# Altium footprint library HRS FPC-FFC FH12 Series.PcbLib: 48 footprints (part 2 of 3)
Each footprint in its own frame and in the unit in brackets; x right, y up, seen from the top. Pads: shape width x height; smd on the part's side, far side on the other; paste and mask are expansions set on the pad; w line width, h text height; cw(c..) or ccw(c..) is an arc to the next point about the centre after c.
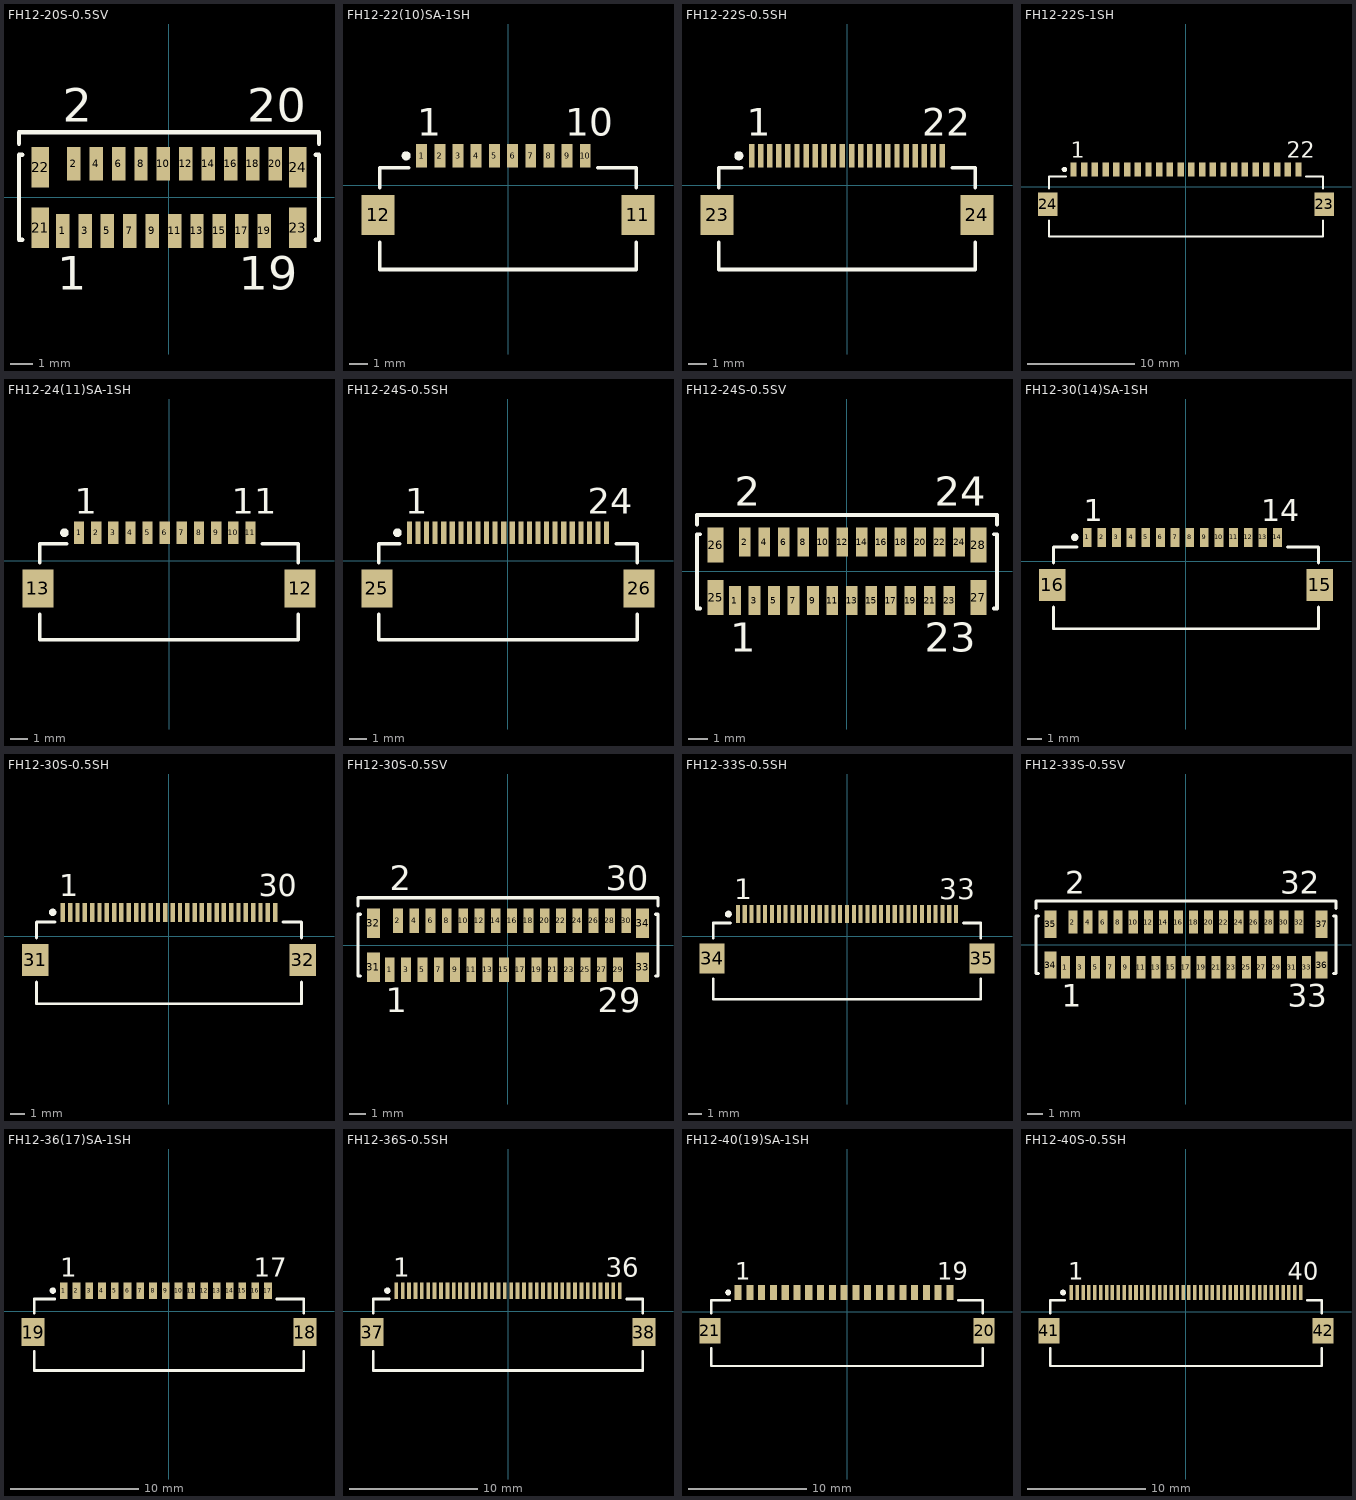
[diagram p1: the footprints below, top view; thin cyan lines are the x and y axes]

## FH12-20S-0.5SV [mm] "Connector; FH12 Series; 20 Position; 0.5mm Spaced Vertical Mounting"
height 4.85
pads (24):
  rect 0.6x1.5 smd: 1(-4.75,-1.5) 2(-4.25,1.5) 3(-3.75,-1.5) 4(-3.25,1.5) 5(-2.75,-1.5) 6(-2.25,1.5) 7(-1.75,-1.5) 8(-1.25,1.5) 9(-0.75,-1.5) 10(-0.25,1.5) 11(0.25,-1.5) 12(0.75,1.5) 13(1.25,-1.5) 14(1.75,1.5) 15(2.25,-1.5) 16(2.75,1.5) 17(3.25,-1.5) 18(3.75,1.5) 19(4.25,-1.5) 20(4.75,1.5)
  rect 0.8x1.8 smd: 21(-5.75,-1.35) 22(-5.75,1.35) 23(5.75,-1.35) 24(5.75,1.35)
Top Overlay:
  lines w0.2: -6.7,2.4 -6.7,2.9 6.7,2.9 6.7,2.4 ; -6.55,-1.9 -6.7,-1.9 -6.7,1.9 -6.55,1.9 ; 6.55,-1.9 6.7,-1.9 6.7,1.9 6.55,1.9
  text "19" at 3.125,-4.125 h1.5
  text "20" at 3.5,3.375 h1.5
  text "2" at -4.75,3.375 h1.5
  text "1" at -5,-4.125 h1.5

## FH12-22(10)SA-1SH [mm] "Connector; FH12 Series; 10 Position; 1.0mm Spaced Bottom Eccentric Contact"
height 2
pads (12):
  rect 0.6x1.3 smd: 1(-4.75,1.625) 2(-3.75,1.625) 3(-2.75,1.625) 4(-1.75,1.625) 5(-0.75,1.625) 6(0.25,1.625) 7(1.25,1.625) 8(2.25,1.625) 9(3.25,1.625) 10(4.25,1.625)
  rect 1.8x2.2 smd: 11(7.15,-1.625) 12(-7.15,-1.625)
Top Overlay:
  circle w0.25: c-5.6,1.625 r0.125
  lines w0.2: -7.05,-3.125 -7.05,-4.625 7.05,-4.625 7.05,-3.125 ; -7.05,-0.125 -7.05,0.975 -5.45,0.975 ; 4.95,0.975 7.05,0.975 7.05,-0.125
  text "10" at 3.15,2.725 h1.5
  text "1" at -5,2.725 h1.5

## FH12-22S-0.5SH [mm] "Connector; FH12 Series; 22 Position; 0.5mm Spaced Bottom Contact"
height 2
pads (24):
  rect 0.3x1.3 smd: 1(-5.25,1.625) 2(-4.75,1.625) 3(-4.25,1.625) 4(-3.75,1.625) 5(-3.25,1.625) 6(-2.75,1.625) 7(-2.25,1.625) 8(-1.75,1.625) 9(-1.25,1.625) 10(-0.75,1.625) 11(-0.25,1.625) 12(0.25,1.625) 13(0.75,1.625) 14(1.25,1.625) 15(1.75,1.625) 16(2.25,1.625) 17(2.75,1.625) 18(3.25,1.625) 19(3.75,1.625) 20(4.25,1.625) 21(4.75,1.625) 22(5.25,1.625)
  rect 1.8x2.2 smd: 23(-7.15,-1.625) 24(7.15,-1.625)
Top Overlay:
  circle w0.25: c-5.95,1.625 r0.125
  lines w0.2: -7.05,-3.125 -7.05,-4.625 7.05,-4.625 7.05,-3.125 ; -7.05,-0.125 -7.05,0.975 -5.8,0.975 ; 5.8,0.975 7.05,0.975 7.05,-0.125
  text "1" at -5.5,2.725 h1.5
  text "22" at 4.15,2.725 h1.5

## FH12-22S-1SH [mm] "Connector; FH12 Series; 22 Position; 1.0mm Spaced Bottom Standard Contact"
height 2
pads (24):
  rect 0.6x1.3 smd: 1(-10.5,1.625) 2(-9.5,1.625) 3(-8.5,1.625) 4(-7.5,1.625) 5(-6.5,1.625) 6(-5.5,1.625) 7(-4.5,1.625) 8(-3.5,1.625) 9(-2.5,1.625) 10(-1.5,1.625) 11(-0.5,1.625) 12(0.5,1.625) 13(1.5,1.625) 14(2.5,1.625) 15(3.5,1.625) 16(4.5,1.625) 17(5.5,1.625) 18(6.5,1.625) 19(7.5,1.625) 20(8.5,1.625) 21(9.5,1.625) 22(10.5,1.625)
  rect 1.8x2.2 smd: 23(12.9,-1.625) 24(-12.9,-1.625)
Top Overlay:
  circle w0.25: c-11.35,1.625 r0.125
  lines w0.2: -12.8,-3.125 -12.8,-4.625 12.8,-4.625 12.8,-3.125 ; -12.8,-0.125 -12.8,0.975 -11.2,0.975 ; 11.2,0.975 12.8,0.975 12.8,-0.125
  text "1" at -10.75,2.725 h1.5
  text "22" at 9.4,2.725 h1.5

## FH12-24(11)SA-1SH [mm] "Connector; FH12 Series; 11 Position; 1.0mm Spaced Bottom Eccentric Contact"
height 2
pads (13):
  rect 0.6x1.3 smd: 1(-5.25,1.625) 2(-4.25,1.625) 3(-3.25,1.625) 4(-2.25,1.625) 5(-1.25,1.625) 6(-0.25,1.625) 7(0.75,1.625) 8(1.75,1.625) 9(2.75,1.625) 10(3.75,1.625) 11(4.75,1.625)
  rect 1.8x2.2 smd: 12(7.65,-1.625) 13(-7.65,-1.625)
Top Overlay:
  circle w0.25: c-6.1,1.625 r0.125
  lines w0.2: -7.55,-3.125 -7.55,-4.625 7.55,-4.625 7.55,-3.125 ; -7.55,-0.125 -7.55,0.975 -5.95,0.975 ; 5.45,0.975 7.55,0.975 7.55,-0.125
  text "11" at 3.65,2.725 h1.5
  text "1" at -5.5,2.725 h1.5

## FH12-24S-0.5SH [mm] "Connector; FH12 Series; 24 Position; 0.5mm Spaced Bottom Contact"
height 2
pads (26):
  rect 0.3x1.3 smd: 1(-5.75,1.625) 2(-5.25,1.625) 3(-4.75,1.625) 4(-4.25,1.625) 5(-3.75,1.625) 6(-3.25,1.625) 7(-2.75,1.625) 8(-2.25,1.625) 9(-1.75,1.625) 10(-1.25,1.625) 11(-0.75,1.625) 12(-0.25,1.625) 13(0.25,1.625) 14(0.75,1.625) 15(1.25,1.625) 16(1.75,1.625) 17(2.25,1.625) 18(2.75,1.625) 19(3.25,1.625) 20(3.75,1.625) 21(4.25,1.625) 22(4.75,1.625) 23(5.25,1.625) 24(5.75,1.625)
  rect 1.8x2.2 smd: 25(-7.65,-1.625) 26(7.65,-1.625)
Top Overlay:
  circle w0.25: c-6.45,1.625 r0.125
  lines w0.2: -7.55,-3.125 -7.55,-4.625 7.55,-4.625 7.55,-3.125 ; -7.55,-0.125 -7.55,0.975 -6.3,0.975 ; 6.3,0.975 7.55,0.975 7.55,-0.125
  text "24" at 4.65,2.725 h1.5
  text "1" at -6,2.725 h1.5

## FH12-24S-0.5SV [mm] "Connector; FH12 Series; 24 Position; 0.5mm Spaced Vertical Mounting"
height 4.85
pads (28):
  rect 0.6x1.5 smd: 1(-5.75,-1.5) 2(-5.25,1.5) 3(-4.75,-1.5) 4(-4.25,1.5) 5(-3.75,-1.5) 6(-3.25,1.5) 7(-2.75,-1.5) 8(-2.25,1.5) 9(-1.75,-1.5) 10(-1.25,1.5) 11(-0.75,-1.5) 12(-0.25,1.5) 13(0.25,-1.5) 14(0.75,1.5) 15(1.25,-1.5) 16(1.75,1.5) 17(2.25,-1.5) 18(2.75,1.5) 19(3.25,-1.5) 20(3.75,1.5) 21(4.25,-1.5) 22(4.75,1.5) 23(5.25,-1.5) 24(5.75,1.5)
  rect 0.8x1.8 smd: 25(-6.75,-1.35) 26(-6.75,1.35) 27(6.75,-1.35) 28(6.75,1.35)
Top Overlay:
  lines w0.2: -7.7,2.4 -7.7,2.9 7.7,2.9 7.7,2.4 ; -7.55,-1.9 -7.7,-1.9 -7.7,1.9 -7.55,1.9 ; 7.55,-1.9 7.7,-1.9 7.7,1.9 7.55,1.9
  text "1" at -6,-4.125 h1.5
  text "2" at -5.75,3.375 h1.5
  text "24" at 4.5,3.375 h1.5
  text "23" at 4,-4.125 h1.5

## FH12-30(14)SA-1SH [mm] "Connector; FH12 Series; 14 Position; 1.0mm Spaced Bottom Eccentric Contact"
height 2
pads (16):
  rect 0.6x1.3 smd: 1(-6.75,1.625) 2(-5.75,1.625) 3(-4.75,1.625) 4(-3.75,1.625) 5(-2.75,1.625) 6(-1.75,1.625) 7(-0.75,1.625) 8(0.25,1.625) 9(1.25,1.625) 10(2.25,1.625) 11(3.25,1.625) 12(4.25,1.625) 13(5.25,1.625) 14(6.25,1.625)
  rect 1.8x2.2 smd: 15(9.15,-1.625) 16(-9.15,-1.625)
Top Overlay:
  circle w0.25: c-7.6,1.625 r0.125
  lines w0.2: -9.05,-3.125 -9.05,-4.625 9.05,-4.625 9.05,-3.125 ; -9.05,-0.125 -9.05,0.975 -7.45,0.975 ; 6.95,0.975 9.05,0.975 9.05,-0.125
  text "14" at 5.15,2.725 h1.5
  text "1" at -7,2.725 h1.5

## FH12-30S-0.5SH [mm] "Connector; FH12 Series; 30 Position; 0.5mm Spaced Bottom Contact"
height 2
pads (32):
  rect 0.3x1.3 smd: 1(-7.25,1.625) 2(-6.75,1.625) 3(-6.25,1.625) 4(-5.75,1.625) 5(-5.25,1.625) 6(-4.75,1.625) 7(-4.25,1.625) 8(-3.75,1.625) 9(-3.25,1.625) 10(-2.75,1.625) 11(-2.25,1.625) 12(-1.75,1.625) 13(-1.25,1.625) 14(-0.75,1.625) 15(-0.25,1.625) 16(0.25,1.625) 17(0.75,1.625) 18(1.25,1.625) 19(1.75,1.625) 20(2.25,1.625) 21(2.75,1.625) 22(3.25,1.625) 23(3.75,1.625) 24(4.25,1.625) 25(4.75,1.625) 26(5.25,1.625) 27(5.75,1.625) 28(6.25,1.625) 29(6.75,1.625) 30(7.25,1.625)
  rect 1.8x2.2 smd: 31(-9.15,-1.625) 32(9.15,-1.625)
Top Overlay:
  circle w0.25: c-7.95,1.625 r0.125
  lines w0.2: -9.05,-3.125 -9.05,-4.625 9.05,-4.625 9.05,-3.125 ; -9.05,-0.125 -9.05,0.975 -7.8,0.975 ; 7.8,0.975 9.05,0.975 9.05,-0.125
  text "30" at 6.15,2.725 h1.5
  text "1" at -7.5,2.725 h1.5
3D body "30P.stp": height 2.05, standoff 0, extent -9.875,-4.121 9.875,2.159

## FH12-30S-0.5SV [mm] "Connector; FH12 Series; 30 Position; 0.5mm Spaced Vertical Mounting"
height 4.85
pads (34):
  rect 0.6x1.5 smd: 1(-7.25,-1.5) 2(-6.75,1.5) 3(-6.25,-1.5) 4(-5.75,1.5) 5(-5.25,-1.5) 6(-4.75,1.5) 7(-4.25,-1.5) 8(-3.75,1.5) 9(-3.25,-1.5) 10(-2.75,1.5) 11(-2.25,-1.5) 12(-1.75,1.5) 13(-1.25,-1.5) 14(-0.75,1.5) 15(-0.25,-1.5) 16(0.25,1.5) 17(0.75,-1.5) 18(1.25,1.5) 19(1.75,-1.5) 20(2.25,1.5) 21(2.75,-1.5) 22(3.25,1.5) 23(3.75,-1.5) 24(4.25,1.5) 25(4.75,-1.5) 26(5.25,1.5) 27(5.75,-1.5) 28(6.25,1.5) 29(6.75,-1.5) 30(7.25,1.5)
  rect 0.8x1.8 smd: 31(-8.25,-1.35) 32(-8.25,1.35) 33(8.25,-1.35) 34(8.25,1.35)
Top Overlay:
  lines w0.2: -9.2,2.4 -9.2,2.9 9.2,2.9 9.2,2.4 ; -9.05,-1.9 -9.2,-1.9 -9.2,1.9 -9.05,1.9 ; 9.05,-1.9 9.2,-1.9 9.2,1.9 9.05,1.9
  text "29" at 5.5,-4.125 h1.5
  text "2" at -7.25,3.375 h1.5
  text "30" at 6,3.375 h1.5
  text "1" at -7.5,-4.125 h1.5

## FH12-33S-0.5SH [mm] "Connector; FH12 Series; 33 Position; 0.5mm Spaced Bottom Contact"
height 2
pads (35):
  rect 0.3x1.3 smd: 1(-8,1.625) 2(-7.5,1.625) 3(-7,1.625) 4(-6.5,1.625) 5(-6,1.625) 6(-5.5,1.625) 7(-5,1.625) 8(-4.5,1.625) 9(-4,1.625) 10(-3.5,1.625) 11(-3,1.625) 12(-2.5,1.625) 13(-2,1.625) 14(-1.5,1.625) 15(-1,1.625) 16(-0.5,1.625) 17(0,1.625) 18(0.5,1.625) 19(1,1.625) 20(1.5,1.625) 21(2,1.625) 22(2.5,1.625) 23(3,1.625) 24(3.5,1.625) 25(4,1.625) 26(4.5,1.625) 27(5,1.625) 28(5.5,1.625) 29(6,1.625) 30(6.5,1.625) 31(7,1.625) 32(7.5,1.625) 33(8,1.625)
  rect 1.8x2.2 smd: 34(-9.9,-1.625) 35(9.9,-1.625)
Top Overlay:
  circle w0.25: c-8.7,1.625 r0.125
  lines w0.2: -9.8,-3.125 -9.8,-4.625 9.8,-4.625 9.8,-3.125 ; -9.8,-0.125 -9.8,0.975 -8.55,0.975 ; 8.55,0.975 9.8,0.975 9.8,-0.125
  text "1" at -8.25,2.725 h1.5
  text "33" at 6.75,2.725 h1.5

## FH12-33S-0.5SV [mm] "Connector; FH12 Series; 33 Position; 0.5mm Spaced Vertical Mounting"
height 4.85
pads (37):
  rect 0.6x1.5 smd: 1(-8,-1.5) 2(-7.5,1.5) 3(-7,-1.5) 4(-6.5,1.5) 5(-6,-1.5) 6(-5.5,1.5) 7(-5,-1.5) 8(-4.5,1.5) 9(-4,-1.5) 10(-3.5,1.5) 11(-3,-1.5) 12(-2.5,1.5) 13(-2,-1.5) 14(-1.5,1.5) 15(-1,-1.5) 16(-0.5,1.5) 17(0,-1.5) 18(0.5,1.5) 19(1,-1.5) 20(1.5,1.5) 21(2,-1.5) 22(2.5,1.5) 23(3,-1.5) 24(3.5,1.5) 25(4,-1.5) 26(4.5,1.5) 27(5,-1.5) 28(5.5,1.5) 29(6,-1.5) 30(6.5,1.5) 31(7,-1.5) 32(7.5,1.5) 33(8,-1.5)
  rect 0.8x1.8 smd: 34(-9,-1.35) 35(-9,1.35) 36(9,-1.35) 37(9,1.35)
Top Overlay:
  lines w0.2: -9.95,2.4 -9.95,2.9 9.95,2.9 9.95,2.4 ; -9.8,-1.9 -9.95,-1.9 -9.95,1.9 -9.8,1.9 ; 9.8,-1.9 9.95,-1.9 9.95,1.9 9.8,1.9
  text "33" at 6.75,-4.125 h1.5
  text "1" at -8.25,-4.125 h1.5
  text "2" at -8,3.375 h1.5
  text "32" at 6.25,3.375 h1.5

## FH12-36(17)SA-1SH [mm] "Connector; FH12 Series; 17 Position; 1.0mm Spaced Bottom Eccentric Contact"
height 2
pads (19):
  rect 0.6x1.3 smd: 1(-8.25,1.625) 2(-7.25,1.625) 3(-6.25,1.625) 4(-5.25,1.625) 5(-4.25,1.625) 6(-3.25,1.625) 7(-2.25,1.625) 8(-1.25,1.625) 9(-0.25,1.625) 10(0.75,1.625) 11(1.75,1.625) 12(2.75,1.625) 13(3.75,1.625) 14(4.75,1.625) 15(5.75,1.625) 16(6.75,1.625) 17(7.75,1.625)
  rect 1.8x2.2 smd: 18(10.65,-1.625) 19(-10.65,-1.625)
Top Overlay:
  circle w0.25: c-9.1,1.625 r0.125
  lines w0.2: -10.55,-3.125 -10.55,-4.625 10.55,-4.625 10.55,-3.125 ; -10.55,-0.125 -10.55,0.975 -8.95,0.975 ; 8.45,0.975 10.55,0.975 10.55,-0.125
  text "17" at 6.65,2.725 h1.5
  text "1" at -8.5,2.725 h1.5

## FH12-36S-0.5SH [mm] "Connector; FH12 Series; 36 Position; 0.5mm Spaced Bottom Contact"
height 2
pads (38):
  rect 0.3x1.3 smd: 1(-8.75,1.625) 2(-8.25,1.625) 3(-7.75,1.625) 4(-7.25,1.625) 5(-6.75,1.625) 6(-6.25,1.625) 7(-5.75,1.625) 8(-5.25,1.625) 9(-4.75,1.625) 10(-4.25,1.625) 11(-3.75,1.625) 12(-3.25,1.625) 13(-2.75,1.625) 14(-2.25,1.625) 15(-1.75,1.625) 16(-1.25,1.625) 17(-0.75,1.625) 18(-0.25,1.625) 19(0.25,1.625) 20(0.75,1.625) 21(1.25,1.625) 22(1.75,1.625) 23(2.25,1.625) 24(2.75,1.625) 25(3.25,1.625) 26(3.75,1.625) 27(4.25,1.625) 28(4.75,1.625) 29(5.25,1.625) 30(5.75,1.625) 31(6.25,1.625) 32(6.75,1.625) 33(7.25,1.625) 34(7.75,1.625) 35(8.25,1.625) 36(8.75,1.625)
  rect 1.8x2.2 smd: 37(-10.65,-1.625) 38(10.65,-1.625)
Top Overlay:
  circle w0.25: c-9.45,1.625 r0.125
  lines w0.2: -10.55,-3.125 -10.55,-4.625 10.55,-4.625 10.55,-3.125 ; -10.55,-0.125 -10.55,0.975 -9.3,0.975 ; 9.3,0.975 10.55,0.975 10.55,-0.125
  text "36" at 7.65,2.725 h1.5
  text "1" at -9,2.725 h1.5

## FH12-40(19)SA-1SH [mm] "Connector; FH12 Series; 19 Position; 1.0mm Spaced Bottom Eccentric Contact"
height 2
pads (21):
  rect 0.6x1.3 smd: 1(-9.25,1.625) 2(-8.25,1.625) 3(-7.25,1.625) 4(-6.25,1.625) 5(-5.25,1.625) 6(-4.25,1.625) 7(-3.25,1.625) 8(-2.25,1.625) 9(-1.25,1.625) 10(-0.25,1.625) 11(0.75,1.625) 12(1.75,1.625) 13(2.75,1.625) 14(3.75,1.625) 15(4.75,1.625) 16(5.75,1.625) 17(6.75,1.625) 18(7.75,1.625) 19(8.75,1.625)
  rect 1.8x2.2 smd: 20(11.65,-1.625) 21(-11.65,-1.625)
Top Overlay:
  circle w0.25: c-10.1,1.625 r0.125
  lines w0.2: -11.55,-3.125 -11.55,-4.625 11.55,-4.625 11.55,-3.125 ; -11.55,-0.125 -11.55,0.975 -9.95,0.975 ; 9.45,0.975 11.55,0.975 11.55,-0.125
  text "1" at -9.5,2.725 h1.5
  text "19" at 7.65,2.725 h1.5

## FH12-40S-0.5SH [mm] "Connector; FH12 Series; 40 Position; 0.5mm Spaced Bottom Contact"
height 2
pads (42):
  rect 0.3x1.3 smd: 1(-9.75,1.625) 2(-9.25,1.625) 3(-8.75,1.625) 4(-8.25,1.625) 5(-7.75,1.625) 6(-7.25,1.625) 7(-6.75,1.625) 8(-6.25,1.625) 9(-5.75,1.625) 10(-5.25,1.625) 11(-4.75,1.625) 12(-4.25,1.625) 13(-3.75,1.625) 14(-3.25,1.625) 15(-2.75,1.625) 16(-2.25,1.625) 17(-1.75,1.625) 18(-1.25,1.625) 19(-0.75,1.625) 20(-0.25,1.625) 21(0.25,1.625) 22(0.75,1.625) 23(1.25,1.625) 24(1.75,1.625) 25(2.25,1.625) 26(2.75,1.625) 27(3.25,1.625) 28(3.75,1.625) 29(4.25,1.625) 30(4.75,1.625) 31(5.25,1.625) 32(5.75,1.625) 33(6.25,1.625) 34(6.75,1.625) 35(7.25,1.625) 36(7.75,1.625) 37(8.25,1.625) 38(8.75,1.625) 39(9.25,1.625) 40(9.75,1.625)
  rect 1.8x2.2 smd: 41(-11.65,-1.625) 42(11.65,-1.625)
Top Overlay:
  circle w0.25: c-10.45,1.625 r0.125
  lines w0.2: -11.55,-3.125 -11.55,-4.625 11.55,-4.625 11.55,-3.125 ; -11.55,-0.125 -11.55,0.975 -10.3,0.975 ; 10.3,0.975 11.55,0.975 11.55,-0.125
  text "40" at 8.65,2.725 h1.5
  text "1" at -10,2.725 h1.5